# Altium schematic symbol library diodes.SchLib: 48 symbols
Pins are listed as number, name and electrical type; pins without a type are passive.

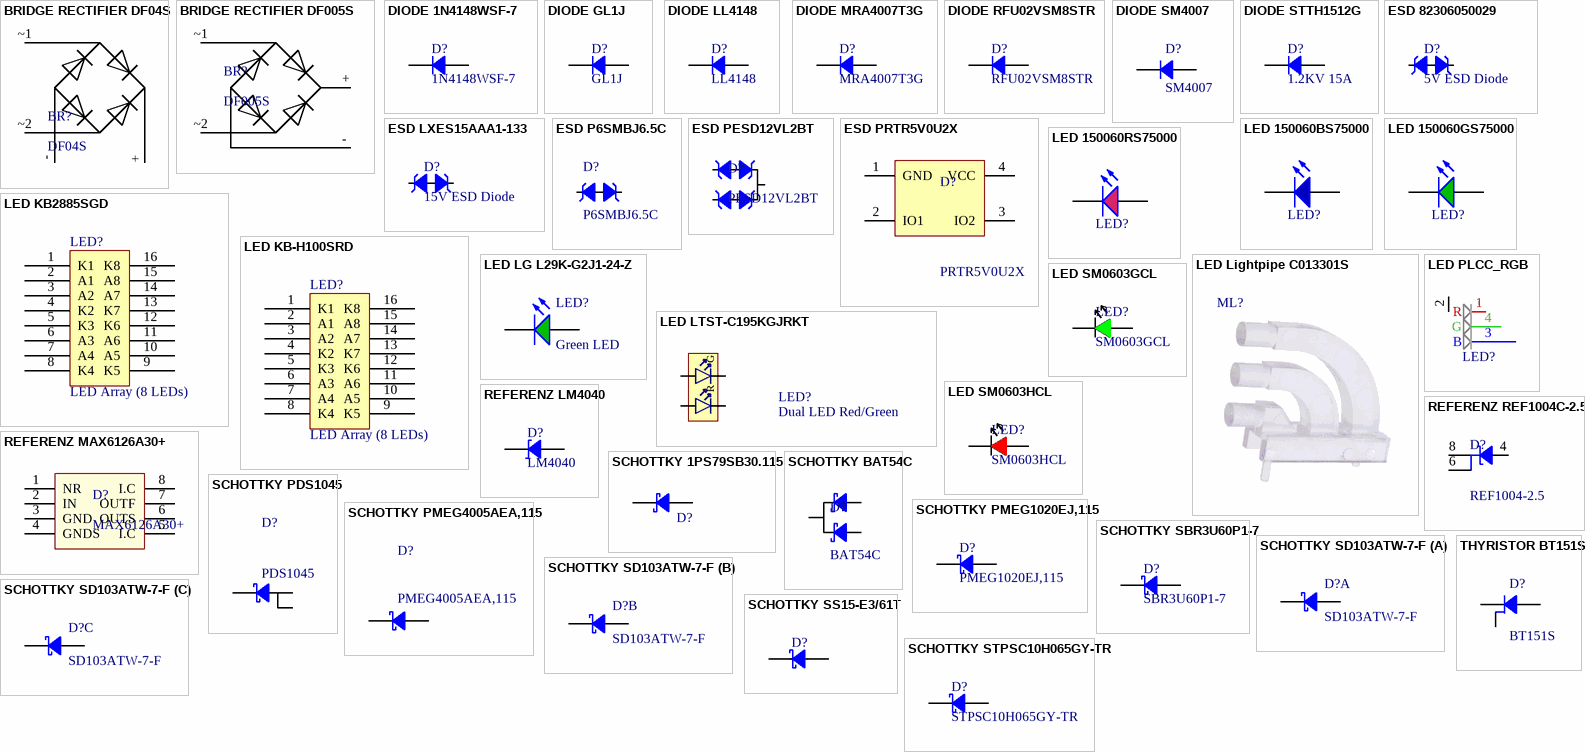
[diagram p0: symbols BRIDGE RECTIFIER DF04S to THYRISTOR BT151S]

## BRIDGE RECTIFIER DF04S
designator BR?, comment DF04S
Brückengleichrichter DF04S, 1A 400V, 4-Pin DF-S; Manufacturer: Fairchild Semiconductor; Manufacturer Part Number: DF04S; Created by: Nils Minor; Value: DF04S
footprint SDIP4
pins: + 3, - 4, ~1 1, ~2 2

## BRIDGE RECTIFIER DF005S
designator BR?, comment DF005S
Brückengleichrichter, 1A 50V 4-Pin Case DFS T/R; Manufacturer: ON Semiconductor; Created by: Nils Minor; Value: DF005S; Manufacturer Part Number: DF005S
footprint SDIP4
pins: + 3, - 4, ~1 1, ~2 2

## DIODE 1N4148WSF-7
designator D?, comment 1N4148WSF-7
Diode, 100V 0.25A, SOD 323F 1.5pF; Manufacturer: Diodes Incorporated; Manufacturer Part Number: 1N4148WSF-7; Created by: Nils Minor
footprint SOD323F (SODFL, 2-Leads, Body 1.25x2.50mm, IPC Medium Density)
pins: A, K

## DIODE GL1J
designator D?, comment GL1J
Gleichrichterdiode, 600 V 1 A SOD-80, GL1J, Diotec; Manufacturer: Diotec; Manufacturer Part Number: GL1J; Created by: Nils Minor; Value: GL1J
footprint DO213AA MiniMELF
pins: A, K

## DIODE LL4148
designator D?, comment LL4148
Diode, 100V 200mA, SOD80; Manufacturer: ON Semiconductor; Manufacturer Part Number: LL4148; Created by: Nils Minor; Value: LL4148
footprint DO213AA MiniMELF
pins: A, K

## DIODE MRA4007T3G
designator D?, comment MRA4007T3G
Diode, 1KV 1A, SMA; Manufacturer: ON Semiconductor; Manufacturer Part Number: MRA4007T3G; Created by: Nils Minor; Value: MRA4007T3G
footprint SMA DO214AC (Molded Diode, 2-Leads, Body 4.30x2.60mm, IPC Medium Density)
pins: A, K

## DIODE RFU02VSM8STR
designator D?, comment RFU02VSM8STR
Diodes - General Purpose, Power, Switching Super Fast Recovery Diodes, TUMD2SM, wideframe; Manufacturer: Rohm; Manufacturer Part Number: RFU02VSM8STR; Created by: Nils Minor; Value: RFU02VSM8STR
footprint TUMD2SM
pins: A, K

## DIODE SM4007
designator D?, comment SM4007
Diodes - General Purpose, Power, Switching GP Si Rect 1A,1000V; Manufacturer: Diotec; Created by: Nils Minor; Manufacturer Part Number: SM4007; Value: SM4007
footprint DO213AB MELF
pins: A, K

## DIODE STTH1512G
designator D?, comment 1.2KV 15A
Diode,1.2KV 15A, D2PAK; Manufacturer: STMicroelectronics; Manufacturer Part Number: STTH1512G; Value: STTH1512G; Created by: Nils Minor
footprint D2PAK-DIODE
pins: A, K

## ESD 82306050029
designator D?, comment 5V ESD Diode
ESD Suppressor, VDC = 5V; Manufacturer: Würth Elektronik; Manufacturer Part Number: 82306050029; Value: 5V ESD; Created by: Nils Minor
footprint ESD 0603/1608 (Chip Diode, 2-Leads, Body 1.60x0.80mm, IPC Medium Density)
pins: A, K

## ESD LXES15AAA1-133
designator D?, comment 15V ESD Diode
ESD Suppressor, VDC = 15V; Manufacturer: Murata; Manufacturer Part Number: LXES15AAA1-133; Value: 15V ESD; Created by: Nils Minor
footprint FER 0402/1005 (Chip Ferrite, 2-Leads, Body 1.02x0.51mm, IPC Medium Density)
pins: 1 K, 2 A

## ESD P6SMBJ6.5C
designator D?, comment P6SMBJ6.5C
Suppressordiode VDC = 5V, Vwm = 6V; Manufacturer: Diotec; Value: 6.5V ESD; Created by: Nils Minor; Manufacturer Part Number: P6SMBJ6.5C
footprint SMB DO214AA (Molded Diode, 2-Leads, Body 4.31x3.62mm, IPC Medium Density)
pins: A, K

## ESD PESD12VL2BT
designator D?, comment PESD12VL2BT
Schutzdioden RS232, 30KV; Manufacturer Part Number: PESD12V2LBT; Value: RS232 ESD; Created by: Nils Minor
footprint SOT23-123
pins: 1, 2, 3

## ESD PRTR5V0U2X
designator D?, comment PRTR5V0U2X
Double rail-to-rail ESD protection diode 8kV; Manufacturer: NXP; Manufacturer Part Number: PRTR5V0U2X; Value: PRTR5V0U2X; Created by: Nils Minor
footprint SOT190P230X110-4L
pins: 1 GND, 2 IO1, 3 IO2, 4 VCC

## LED 150060BS75000
designator LED?, comment Blue LED  (value not drawn)
LED blau, mono-color waterclear, 0603; Manufacturer: Wurth Elektronik; Manufacturer Part Number: 150060BS75000; Value: 150060BS75000; Created by: Nils Minor
footprint LED 0603/1608 BLUE (Chip Diode, 2-Leads, Body 1.60x0.80mm, IPC Medium Density)
pins: A, K

## LED 150060GS75000
designator LED?, comment Green LED  (value not drawn)
LED grün, mono-color waterclear, 0603; Manufacturer: Wurth Elektronik; Manufacturer Part Number: 150060GS75000; Value: 150060GS75000; Created by: Nils Minor
footprint LED 0603/1608 GREEN (Chip Diode, 2-Leads, Body 1.60x0.80mm, IPC Medium Density)
pins: A, K

## LED 150060RS75000
designator LED?, comment Red LED  (value not drawn)
LED rot, mono-color waterclear, 0603; Manufacturer: Wurth Elektronik; Manufacturer Part Number: 150060RS75000; Value: 150060RS75000; Created by: Nils Minor
footprint LED 0603/1608 RED (Chip Diode, 2-Leads, Body 1.60x0.80mm, IPC Medium Density)
pins: A, K

## LED KB2885SGD
designator LED?, comment LED Array (8 LEDs)
Led-Balken (8 LEDs), grün; Manufacturer: Kingbright; Manufacturer Part Number: KB2885SGD; Value: KB2885SGD; Created by: Nils Minor
footprint DIP16
pins: 1 K1, 2 A1, 3 A2, 4 K2, 5 K3, 6 A3, 7 A4, 8 K4, 9 K5, 10 A5, 11 A6, 12 K6, 13 K7, 14 A7, 15 A8, 16 K8

## LED KB-H100SRD
designator LED?, comment LED Array (8 LEDs)
Led-Balken (8 LEDs), rot,; Manufacturer: Kingbright; Manufacturer Part Number: KB-H100SRD; Value: KB-H100SRD; Created by: Nils Minor
footprint DIP16
pins: 1 K1, 2 A1, 3 A2, 4 K2, 5 K3, 6 A3, 7 A4, 8 K4, 9 K5, 10 A5, 11 A6, 12 K6, 13 K7, 14 A7, 15 A8, 16 K8

## LED LG L29K-G2J1-24-Z
designator LED?, comment Green LED
LED grün, 570NM,  0603; Manufacturer: Multicomp; Manufacturer Part Number: LG L29K-G2J1-24-Z; Value: LG L29K-G2J1-24-Z; Created by: Nils Minor
footprint LED 0603/1608 GREEN (Chip Diode, 2-Leads, Body 1.60x0.80mm, IPC Medium Density)
pins: A, K

## LED Lightpipe C013301S
designator ML?, comment M_LPF-C013301S  (value not drawn)
3POS 3MM 5.08 STACKED RIGHT ANGLE; Manufacturer: Lumex Inc.; Created by: Nils Minor; Manufacturer Part Number: LPF-C013301S
footprint LPF-C013301S

## LED LTST-C195KGJRKT
designator LED?, comment Dual LED Red/Green
Dual rot-grün LED; Manufacturer: Lite-On Inc; Manufacturer Part Number: LTST-C195KGJRKT; Value: LTST-C195KGJRKT; Created by: Nils Minor
footprint LED_DUAL_0606
pins: 1 A2, 2 A1, 3 C2, 4 C1
text: G; R

## LED PLCC_RGB
designator LED?, comment D_LED_PLCC_RGB  (value not drawn)
LED R/G/B PLCC4 für Lightpipe C013301S; Manufacturer: Cree Inc.; Manufacturer Part Number: CLV1A-FKB-CJ1M1F1BB7R4S3TR-ND; Created by: Nils Minorr
footprint D_PLCC4_CREE
pins: 1 R, 2 A, 3 B, 4 G

## LED SM0603GCL
designator LED?, comment SM0603GCL
LED grün,  1.9V, 2mA, 0603; Manufacturer: Bivar; Manufacturer Part Number: SM0603GCL; Created by: Nils Minor; Value: SM0603GCL
footprint LED 0603/1608 GREEN (Chip Diode, 2-Leads, Body 1.60x0.80mm, IPC Medium Density)
pins: A, K

## LED SM0603HCL
designator LED?, comment SM0603HCL
LED rot,  1.9V, 2mA, 0603; Manufacturer: Bivar; Manufacturer Part Number: SM0603HCL; Created by: Nils Minor; Value: SM0603HCL
footprint LED 0603/1608 RED (Chip Diode, 2-Leads, Body 1.60x0.80mm, IPC Medium Density)
pins: A, K

## REFERENZ LM4040
designator D?, comment LM4040
Referenzdiode 2.5V SOT23-3; Manufacturer: Texas Instruments (TI); Manufacturer Part Number: LM4040AIM3-2.5/NOPB; Value: LM4040AIM3-2.5/NOPB; Created by: Nils Minor
footprint SOT23-123
pins: 1 K, 2

## REFERENZ MAX6126A30+
designator D?, comment MAX6126A30+
Referenzdiode 3V 8UMAX; Manufacturer: Maxim; Manufacturer Part Number: MAX6126A30+; Created by: Nils Minor; Value: MAX6126A30+
footprint 8 - LEAD MSOP (ADP1715ARMZ-1.5-R7)
pins: 1 NR, 2 IN, 3 GND, 4 GNDS, 5 I.C, 6 OUTS, 7 OUTF, 8 I.C

## REFERENZ REF1004C-2.5
designator D?, comment REF1004-2.5
Referenz Diode 2.5 V, SOIC; Manufacturer: Texas Instruments (TI); Manufacturer Part Number: REFC1004-2.5; Value: REFC1004-2.5; Created by: Nils Minor
footprint SO8
pins: 4 A, 6 C, 8 C

## SCHOTTKY 1PS79SB30.115
designator D?, comment 1PS79SB30.115  (value not drawn)
Schottky Diode  Vf=0.38, Vr=40V, If=200mA, Ir=500nA; Manufacturer: Nexperia; Manufacturer Part Number: 1PS79SB30.115; Value: 1PS79SB30.115; Created by: Nils Minor
footprint SOD523
pins: A, K

## SCHOTTKY BAT54C
designator D?, comment BAT54C
Schottky Diode mit gemeinsammer Kathode, 30V 200mA , SOT-23-3; Manufacturer: Fairchild Semiconductor; Value: BAT54C; Manufacturer Part Number: BAT54C; Created by: Nils Minor
footprint SOT23-123
pins: 1, 2, 3

## SCHOTTKY PDS1045
designator D?, comment PDS1045
Schottky Barrier Diode, 45V 10A; Manufacturer: Diodes; Created by: Nils Minor; Manufacturer Part Number: PDS1045; Value: PDS1045
footprint PDS1045
pins: 1, 2, 3

## SCHOTTKY PMEG1020EJ,115
designator D?, comment PMEG1020EJ,115
Schottky Diode, 10V 2A, SOD323F; Manufacturer: Nexperia; Manufacturer Part Number: PMEG1020EJ,115; Created by: Nils Minor; Value: PMEG1020EJ,115
footprint SOD323F (SODFL, 2-Leads, Body 1.25x2.50mm, IPC Medium Density)
pins: A, K

## SCHOTTKY PMEG4005AEA,115
designator D?, comment PMEG4005AEA,115
Schottky Diode, 40V 500 mA, SOD-323; Manufacturer: Nexperia; Created by: Nils Minor; Manufacturer Part Number: PMEG4005AEA,115; Value: PMEG4005AEA,115
footprint SOD323F (SODFL, 2-Leads, Body 1.25x2.50mm, IPC Medium Density)
pins: A, K

## SCHOTTKY SBR3U60P1-7
designator D?, comment SBR3U60P1-7
Schottky Diode, 60V 3A, POWERDI123; Manufacturer: Diodes; Manufacturer Part Number: SBR3U60P1-7; Created by: Nils Minor; Value: SBR3U60P1-7
footprint SBR3U60P1-7
pins: A, K

## SCHOTTKY SD103ATW-7-F
designator D?, comment SD103ATW-7-F
Dual Schottky Diode, 40V 175mA, SOT-363; Manufacturer: Diodes Incorporated; Manufacturer Part Number: SD103ATW-7-F; Created by: Nils Minor; Value: SD103ATW-7-F
footprint SOT363
part A pins: 1 C1, 6 A1
part B pins: 2 C2, 5 A2
part C pins: 3 1, 4 A3

## SCHOTTKY SS15-E3/61T
designator D?, comment SS15-E3/61T  (value not drawn)
Schottky Diode, 50V 1A, DO214AC; Manufacturer: Vishay Semiconductors; Manufacturer Part Number: SS15-E3/61T; Created by: Nils Minor; Value: SS15-E3/61T
footprint SMA DO214AC (Molded Diode, 2-Leads, Body 4.30x2.60mm, IPC Medium Density)
pins: A, K

## SCHOTTKY STPSC10H065GY-TR
designator D?, comment STPSC10H065GY-TR
Schottky Diode, 650V 10A, D2PAK; Manufacturer: STMicroelectronics; Manufacturer Part Number: STPSC10H065GY-TR; Created by: Nils Minor; Value: STPSC10H065GY-TR
footprint D2PAK-COOLING
pins: A, K

## THYRISTOR BT151S
designator D?, comment BT151S
Thyristor, 650V 12A, DPAK; Manufacturer: WeEn; Manufacturer Part Number: BT151S-800R; Created by: Nils Minor; Value: BT151S
footprint SOT-428
pins: 1, 2, 3

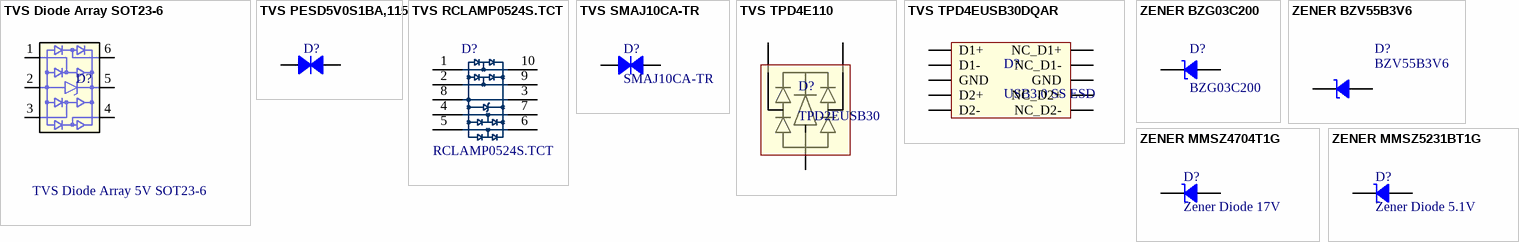
[diagram p1: symbols TVS Diode Array SOT23-6 to ZENER MMSZ5231BT1G]

## TVS Diode Array SOT23-6
designator D?, comment TVS Diode Array 5V SOT23-6
TVS Dioden Array 5V, USB2, 15kV/8kV; Manufacturer: Semtech; Manufacturer Part Number: RCLAMP0504S.TCT; Value: RCLAMP 0504 S.TCT; Created by: Nils Minor
footprint SOT236
pins: 1, 2, 3, 4, 5, 6

## TVS PESD5V0S1BA,115
designator D?, comment PESD5V0S1BA,115  (value not drawn)
TVS Diode, 5Vwm 14VC, SOD323; Manufacturer: NXP Semiconductors; Manufacturer Part Number: PESD5V0S1BA,115; Created by: Nils Minor; Value: PESD5V0S1BA,115
footprint SOD323F (SODFL, 2-Leads, Body 1.25x2.50mm, IPC Medium Density)
pins: A, K

## TVS RCLAMP0524S.TCT
designator D?, comment RCLAMP0524S.TCT
TVS ARRAY LOW CAP; MANUFACTURER: SEMTECH; Created by: Nils Minor; Manufacturer Part Number: RCLAMP0524S.TCT
footprint SLP-2510P8 (Footprint not found)
pins: 1, 2, 3 (power), 4, 5, 6, 7, 8 7, 9, 10

## TVS SMAJ10CA-TR
designator D?, comment SMAJ10CA-TR
TVS Diodes, 400W 10V; Manufacturer: STMicroelectronics; Manufacturer Part Number: SMAJ10CA-TR; Created by: Nils Minor; Value: SMAJ10CA-TR
footprint SMA DO214AC (Molded Diode, 2-Leads, Body 4.30x2.60mm, IPC Medium Density)
pins: A 1, K

## TVS TPD4E110
designator D?, comment TPD2EUSB30
TVS Diode, 5.5Vwm 8VC, SOT3; Manufacturer: Texas Instruments (TI); Manufacturer Part Number: TPD2E009DRTR; Value: TPD2E009DRTR; Created by: Nils Minor
footprint DRT (3SOT)
pins: 1 TX, 2 RX, 3 GND

## TVS TPD4EUSB30DQAR
designator D?, comment USB3.0 SS ESD
TVS Diode, 5.5Vwm 8VC, USB3 10SON; Manufacturer: Texas Instruments (TI); Manufacturer Part Number: TPD4EUSB30DQAR; Value: TPD4EUSB30DQAR; Created by: Nils Minor
footprint TPD4EUSB30 (USB 3.0 ESD)
pins: 1 D1+, 2 D1-, 3 GND, 4 D2+, 5 D2-, 6 NC_D2-, 7 NC_D2+, 8 GND, 9 NC_D1-, 10 NC_D1+

## ZENER BZG03C200
designator D?, comment BZG03C200
Zener Diode, 200V, 1.25W, DO214AC; Manufacturer: Vishay; Manufacturer Part Number: BZG03C200-M3-08; Value: BZG03C200-M3-08; Created by: Nils Minor
footprint SMA DO214AC (Molded Diode, 2-Leads, Body 4.30x2.60mm, IPC Medium Density)
pins: A, K

## ZENER BZV55B3V6
designator D?, comment BZV55B3V6
Zender Diode, 3.6 V, 500mW, Mini MELF; Manufacturer: Nexperia; Created by: Nils Minor; Value: BZV55B3V6; Manufacturer Part Number: BZV55B3V6
footprint DO213AA MiniMELF
pins: A, K

## ZENER MMSZ4704T1G
designator D?, comment Zener Diode 17V
Zender Diode, 17V 500mW, SOD123; Manufacturer: ON Semiconductor; Manufacturer Part Number: MMSZ4704T1G; Value: MMSZ4704T1G; Created by: Nils Minor
footprint SOD123 (SOD, 2-Leads, Body 1.55x3.70mm, IPC Medium Density)
pins: A, K

## ZENER MMSZ5231BT1G
designator D?, comment Zener Diode 5.1V
Zender Diode, 5.1V 500mW, SOD123; Manufacturer: ON Semiconductor; Manufacturer Part Number: MMSZ5231BT1G; Created by: Nils Minor
footprint SOD123 (SOD, 2-Leads, Body 1.55x3.70mm, IPC Medium Density)
pins: A, K